# Altium footprint library DIODE_SMB(DO-214AA).PcbLib: 1 footprints
Each footprint in its own frame and in the unit in brackets; x right, y up, seen from the top. Pads: shape width x height; smd on the part's side, far side on the other; paste and mask are expansions set on the pad; w line width, h text height; cw(c..) or ccw(c..) is an arc to the next point about the centre after c.
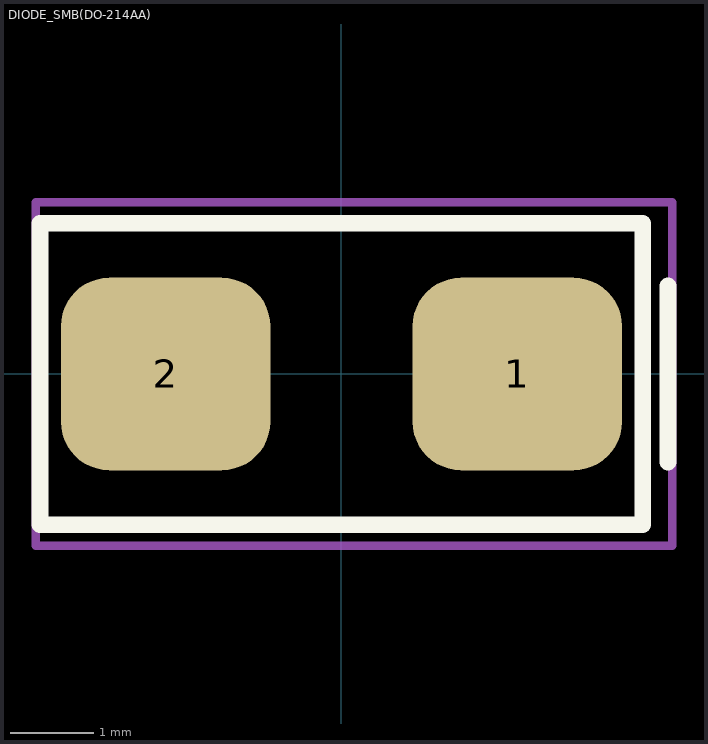
[diagram p0: the footprint, top view; thin cyan lines are the x and y axes]

## DIODE_SMB(DO-214AA) [mm]
pads (2):
  rrect50% 2.5x2.3 smd: 1(2.1,0) 2(-2.1,0)
Top Overlay:
  lines w0.2: 3.9,-1.05 3.9,1.05 ; -3.6,-1.8 3.6,-1.8 3.6,1.8 -3.6,1.8 -3.6,-1.8
Top Courtyard:
  lines w0.1: -3.65,-2.05 3.95,-2.05 3.95,2.05 -3.65,2.05 -3.65,-2.05
3D body "SMB.STEP": height 2.4, standoff 0, extent -2.6,-1.799 2.6,1.8